# Altium schematic symbol library AudioJack.SchLib: 6 symbols
Pins are listed as number, name and electrical type; pins without a type are passive.

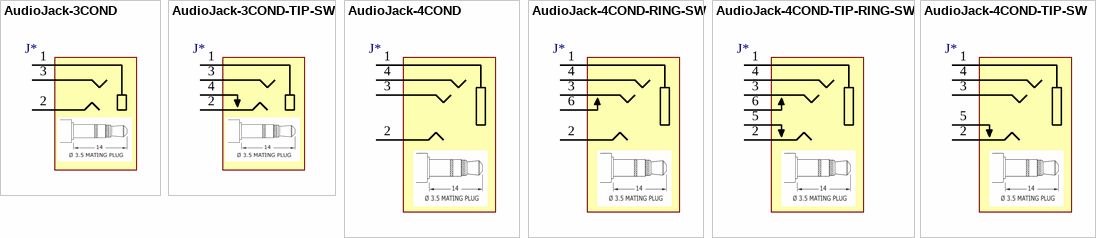
[diagram p0: symbols AudioJack-3COND to AudioJack-4COND-TIP-SW]

## AudioJack-3COND
designator J*
=Description
pins: 1 sleeve, 2 tip_sw, 3 tip

## AudioJack-3COND-TIP-SW
designator J*
=Description
pins: 1 sleeve, 2 tip_sw, 3 tip, 4 ring

## AudioJack-4COND
designator J*
=Description
pins: 1 sleeve, 2 tip, 3 ring1, 4 ring2

## AudioJack-4COND-RING-SW
designator J*
=Description
pins: 1 sleeve, 2 tip, 3 ring1, 4 ring2, 6 ring_sw

## AudioJack-4COND-TIP-RING-SW
designator J*
=Description
pins: 1 sleeve, 2 tip, 3 ring1, 4 ring2, 5 tip_sw, 6 ring_sw

## AudioJack-4COND-TIP-SW
designator J*
=Description
pins: 1 sleeve, 2 tip, 3 ring1, 4 ring2, 5 tip_sw